# Altium footprint library ESP8266.PcbLib: 1 footprints
Each footprint in its own frame and in the unit in brackets; x right, y up, seen from the top. Pads: shape width x height; smd on the part's side, far side on the other; paste and mask are expansions set on the pad; w line width, h text height; cw(c..) or ccw(c..) is an arc to the next point about the centre after c.
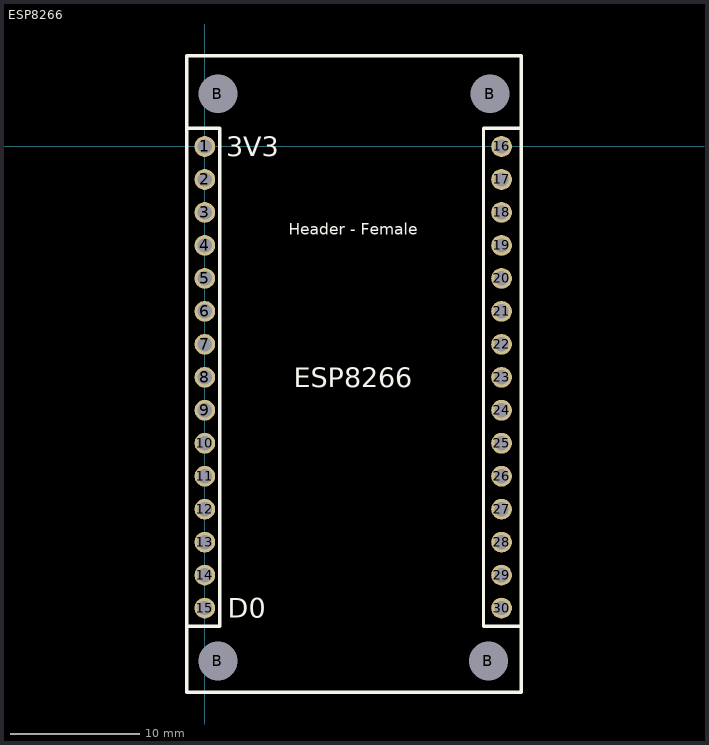
[diagram p0: the footprint, top view; thin cyan lines are the x and y axes]

## ESP8266 [mm]
pads (34):
  round 1.6 hole 1.1: 1(0,0) 2(0,-2.54) 3(0,-5.08) 4(0,-7.62) 5(0,-10.16) 6(0,-12.7) 7(0,-15.24) 8(0,-17.78) 9(0,-20.32) 10(0,-22.86) 11(0,-25.4) 12(0,-27.94) 13(0,-30.48) 14(0,-33.02) 15(0,-35.56) 16(22.86,0) 17(22.86,-2.54) 18(22.86,-5.08) 19(22.86,-7.62) 20(22.86,-10.16) 21(22.86,-12.7) 22(22.86,-15.24) 23(22.86,-17.78) 24(22.86,-20.32) 25(22.86,-22.86) 26(22.86,-25.4) 27(22.86,-27.94) 28(22.86,-30.48) 29(22.86,-33.02) 30(22.86,-35.56)
  round 1.524 hole 3: B(1.016,-39.624) B(1.016,4.064) B(21.844,-39.624) B(21.971,4.064)
Top Overlay:
  lines w0.254: -1.397,-36.957 1.143,-36.957 1.143,1.397 -1.27,1.397 ; 24.384,-36.957 21.463,-36.957 21.463,1.397 24.384,1.397 ; -1.397,-42.037 -1.397,6.985 24.384,6.985 24.384,-42.037 -1.397,-42.037
  text "Header - Female" at 6.477,-7.097 h1.5
  text "D0" at 1.778,-36.322 h1.52
  text "3V3" at 1.651,-0.762 h1.52
  text "ESP8266" at 6.858,-18.542 h1.52
3D body "User Library-NODEMCU_DEVKIT_V1_0.STEP": height 14.27, standoff 2.08, extent -1.27,-42.15 24.51,6.844
3D body "female_header_a-bl254-eg-g15d.stp": height 3.2, standoff -8.5, extent -1.23,-36.955 1.27,1.395
3D body "female_header_a-bl254-eg-g15d.stp": height 3.2, standoff -8.5, extent 21.483,-36.955 23.983,1.395